# Altium footprint library transformer.PcbLib: 18 footprints (part 1 of 2)
Each footprint in its own frame and in the unit in brackets; x right, y up, seen from the top. Pads: shape width x height; smd on the part's side, far side on the other; paste and mask are expansions set on the pad; w line width, h text height; cw(c..) or ccw(c..) is an arc to the next point about the centre after c.
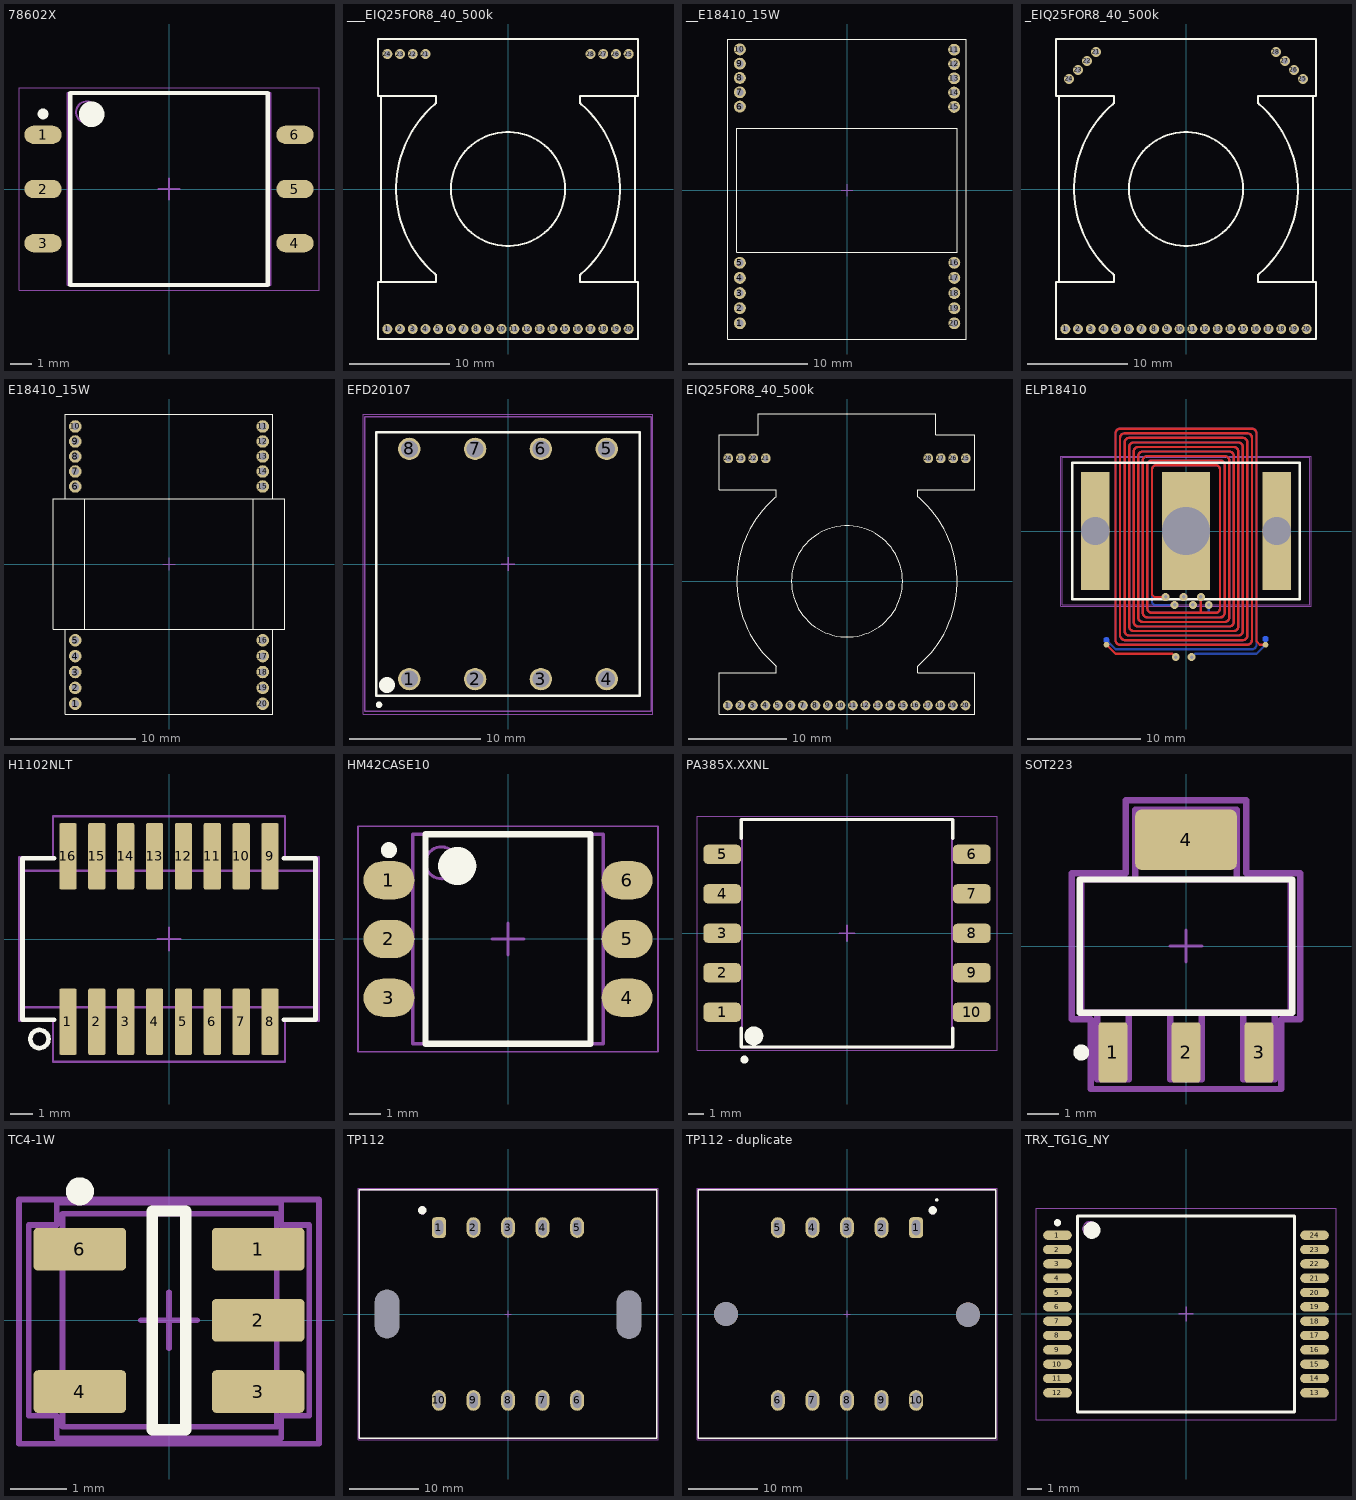
[diagram p0: the footprints below, top view; thin cyan lines are the x and y axes]

## 78602X [mm] "SOP, 6-Leads, IPC Medium Density"
height 6.35
pads (6):
  oval 1.75x0.85 smd: 1(-5.9,2.54) 2(-5.9,0) 3(-5.9,-2.54) 4(5.9,-2.54) 5(5.9,0) 6(5.9,2.54)
Top Overlay:
  circle w0.6: c-3.625,3.5 r0.3
  circle w0.25: c-5.9,3.515 r0.125
  lines w0.2: -4.625,-4.5 4.625,-4.5 4.625,4.5 -4.625,4.5 -4.625,-4.5
Mechanical 13:
  circle w0.1: c-3.85,3.6 r0.5
  lines w0.1: -4.75,-4.5 4.75,-4.5 4.75,4.5 -4.75,4.5 -4.75,-4.5
Mechanical 15:
  lines w0.05: -7.025,-4.75 7.025,-4.75 7.025,4.75 -7.025,4.75 -7.025,-4.75
  lines w0.1: -0.5,0 0.5,0 ; 0,-0.5 0,0.5
3D body "7860X.step": height 6.35, standoff 0, extent -6.35,-4.5 6.35,4.5

## ___EIQ25FOR8_40_500k [mm]
pads (28):
  round 1 hole 0.6 mask+0.127: 1(-12.065,-14) 2(-10.795,-14) 3(-9.525,-14) 4(-8.255,-14) 5(-6.985,-14) 6(-5.715,-14) 7(-4.445,-14) 8(-3.175,-14) 9(-1.905,-14) 10(-0.635,-14) 11(0.635,-14) 12(1.905,-14) 13(3.175,-14) 14(4.445,-14) 15(5.715,-14) 16(6.985,-14) 17(8.255,-14) 18(9.525,-14) 19(10.795,-14) 20(12.065,-14) 21(-8.255,13.5) 22(-9.525,13.5) 23(-10.795,13.5) 24(-12.065,13.5) 25(12.065,13.5) 26(10.795,13.5) 27(9.525,13.5) 28(8.255,13.5)
Top Overlay:
  circle w0.2: c0,0 r5.7
  lines w0.2: -12.7,-9.3 -12.7,9.3 ; -7.325,-8.475 -7.2,-8.6 -7.2,-9.3 -13,-9.3 -13,-15 13,-15 13,-9.3 7.2,-9.3 7.2,-8.6 7.325,-8.475 ; -7.325,8.475 -7.2,8.6 -7.2,9.3 -13,9.3 -13,15 13,15 13,9.3 7.2,9.3 7.2,8.6 7.325,8.475 ; -7.324,-8.474 cw(c0,0) -7.324,8.474 ; 7.324,-8.474 ccw(c0,0) 7.324,8.474 ; 12.7,-9.3 12.7,9.3

## __E18410_15W [mm] "IPC Low Density"
height 6.35
pads (20):
  round 1 hole 0.6 mask+0.127: 1(-9,-11.18) 2(-9,-9.91) 3(-9,-8.64) 4(-9,-7.37) 5(-9,-6.1) 6(-9,7.025) 7(-9,8.225) 8(-9,9.425) 9(-9,10.625) 10(-9,11.825) 11(9,11.8) 12(9,10.6) 13(9,9.4) 14(9,8.2) 15(9,7) 16(9.014,-6.1) 17(9.014,-7.37) 18(9.014,-8.64) 19(9.014,-9.91) 20(9.014,-11.18)
Top Overlay:
  lines w0.1: -9.25,-5.2 -9.25,5.2 ; -9.25,-5.2 -9.25,-5.2 ; -9.25,-5.2 9.25,-5.2 9.25,5.2 -9.25,5.2 ; -9.25,5.2 -9.25,5.2 ; -10,-12.5 -10,12.7 10,12.7 10,-12.5 -10,-12.5
Mechanical 15:
  lines w0.1: -0.5,0 0.5,0 ; 0,-0.5 0,0.5

## _EIQ25FOR8_40_500k [mm]
pads (28):
  round 1 hole 0.6 mask+0.127: 1(-12.065,-14) 2(-10.795,-14) 3(-9.525,-14) 4(-8.255,-14) 5(-6.985,-14) 6(-5.715,-14) 7(-4.445,-14) 8(-3.175,-14) 9(-1.905,-14) 10(-0.635,-14) 11(0.635,-14) 12(1.905,-14) 13(3.175,-14) 14(4.445,-14) 15(5.715,-14) 16(6.985,-14) 17(8.255,-14) 18(9.525,-14) 19(10.795,-14) 20(12.065,-14) 21(-9,13.7) 22(-9.898,12.802) 23(-10.796,11.904) 24(-11.694,11.006) 25(11.694,11.006) 26(10.796,11.904) 27(9.898,12.802) 28(9,13.7)
Top Overlay:
  circle w0.2: c0,0 r5.7
  lines w0.2: -12.7,-9.3 -12.7,9.3 ; -7.325,-8.475 -7.2,-8.6 -7.2,-9.3 -13,-9.3 -13,-15 13,-15 13,-9.3 7.2,-9.3 7.2,-8.6 7.325,-8.475 ; -7.325,8.475 -7.2,8.6 -7.2,9.3 -13,9.3 -13,15 13,15 13,9.3 7.2,9.3 7.2,8.6 7.325,8.475 ; -7.324,-8.474 cw(c0,0) -7.324,8.474 ; 7.324,-8.474 ccw(c0,0) 7.324,8.474 ; 12.7,-9.3 12.7,9.3

## E18410_15W [mm] "IPC Low Density"
height 6.35
pads (20):
  round 1 hole 0.6 mask+0.127: 1(-7.5,-11.18) 2(-7.5,-9.91) 3(-7.5,-8.64) 4(-7.5,-7.37) 5(-7.5,-6.1) 6(-7.5,6.2) 7(-7.5,7.4) 8(-7.5,8.6) 9(-7.5,9.8) 10(-7.5,11) 11(7.5,11) 12(7.5,9.8) 13(7.5,8.6) 14(7.5,7.4) 15(7.5,6.2) 16(7.5,-6.1) 17(7.5,-7.37) 18(7.5,-8.64) 19(7.5,-9.91) 20(7.5,-11.18)
Top Overlay:
  lines w0.1: -9.25,-5.2 -9.25,5.2 ; -9.25,-5.2 -9.25,-5.2 ; -9.25,-5.2 9.25,-5.2 9.25,5.2 -9.25,5.2 ; -9.25,5.2 -9.25,5.2 ; -8.3,-12 -8.3,-5.2 -6.75,-5.2 -6.75,5.2 -8.3,5.2 -8.3,12 8.3,12 8.3,5.2 6.75,5.2 6.75,-5.2 8.3,-5.2 8.3,-12 -8.3,-12
Mechanical 15:
  lines w0.1: -0.5,0 0.5,0 ; 0,-0.5 0,0.5

## EFD20107 [mm] "IPC Low Density"
height 6.35
pads (8):
  round 1.7 hole 1.3: 1(-7.5,-8.75) 2(-2.5,-8.75) 3(2.5,-8.75) 4(7.5,-8.75) 5(7.5,8.75) 6(2.5,8.75) 7(-2.5,8.75) 8(-7.5,8.75)
Top Overlay:
  circle w0.25: c-9.8,-10.7 r0.125
  circle w0.6: c-9.2,-9.2 r0.3
  lines w0.2: -10,-10 10,-10 10,10 -10,10 -10,-10
Mechanical 13:
  circle w0.1: c-9.2,-9.2 r0.5
  lines w0.1: -10.9,-11.2 10.9,-11.2 10.9,11.2 -10.9,11.2 -10.9,-11.2
Mechanical 15:
  lines w0.05: -11,-11.4 11,-11.4 11,11.4 -11,11.4 -11,-11.4
  lines w0.1: -0.5,0 0.5,0 ; 0,-0.5 0,0.5
3D body "EFD20-1.step": height 10.4, standoff -3.5, extent -10.9,-11.331 10.9,11.332

## EIQ25FOR8_40_500k [mm]
pads (28):
  round 1 hole 0.6 mask+0.127: 1(-12.1,-12.6) 2(-10.83,-12.6) 3(-9.56,-12.6) 4(-8.29,-12.6) 5(-7.02,-12.6) 6(-5.75,-12.6) 7(-4.48,-12.6) 8(-3.21,-12.6) 9(-1.94,-12.6) 10(-0.67,-12.6) 11(0.6,-12.6) 12(1.87,-12.6) 13(3.14,-12.6) 14(4.41,-12.6) 15(5.68,-12.6) 16(6.95,-12.6) 17(8.22,-12.6) 18(9.49,-12.6) 19(10.76,-12.6) 20(12.03,-12.6) 21(-8.25,12.5) 22(-9.52,12.5) 23(-10.79,12.5) 24(-12.06,12.5) 25(12.065,12.5) 26(10.795,12.5) 27(9.525,12.5) 28(8.255,12.5)
Top Overlay:
  circle w0.05: c0,0 r5.65
  lines w0.1: -7.325,-8.475 -7.2,-8.6 -7.2,-9.3 -13,-9.3 -13,-13.475 13,-13.475 13,-9.3 7.2,-9.3 7.2,-8.6 7.325,-8.475 ; -7.325,8.475 -7.2,8.6 -7.2,9.3 -13,9.3 -13,14.9 -9,14.9 -9,17 -7.7,17 9.005,17 9.005,14.9 13,14.9 13,9.3 7.2,9.3 7.2,8.6 7.325,8.475 ; -7.324,-8.474 cw(c0,0) -7.324,8.474 ; 7.324,-8.474 ccw(c0,0) 7.324,8.474

## ELP18410 [mm] "IPC Low Density"
height 6.35
pads (11):
  round 0.5 smd far side: 1(-7,-9.6) 4(7,-9.5)
  round 0.5 smd: 2(-7,-10) 3(7,-10)
  round 0.5 on Mid1: 5(10,8.5) 6(8,7)
  round 0.5 on Mid2: 7(-8,7) 8(-10.5,8.5)
  rect 2.5x10.4 hole 2.5 square unplated: ""(-8,0) ""(8,0)
  rect 4.25x10.4 hole 4.25 square unplated: ""(0,0)
via 0.6,-6.5 diameter 0.7 hole 0.3
via -1,-6.5 diameter 0.7 hole 0.3
via -1.8,-5.8 diameter 0.7 hole 0.3
via 2,-6.5 diameter 0.7 hole 0.3
via 1.3,-5.8 diameter 0.7 hole 0.3
via -0.2,-5.8 diameter 0.7 hole 0.3
via 0.5,-11.1 diameter 0.7 hole 0.3
via -0.9,-11.1 diameter 0.7 hole 0.3
Top Layer:
  rectangle: 1,-6 1.6,-5.6
  rectangle: 1.7,-6.7 2.3,-6.3
  rectangle: 0.3,-6.7 0.9,-6.3
  rectangle: -1.3,-6.7 -0.7,-6.3
  region: -1.5,-5.6 -2.1,-5.6 -2.1,-6 -1.5,-6
  region: 0.1,-5.6 -0.5,-5.6 -0.5,-6 0.1,-6
  lines w0.2: -7,-10 -6.2,-10.8 -1.2,-10.8 -0.9,-11.1 ; -5.4,-9.6 5,-9.6 ccw(c5,-9.2) 5.4,-9.2 5.4,7.8 ccw(c5,7.8) 5,8.2 -5,8.2 ccw(c-5,7.8) -5.4,7.8 -5.4,-8.8 ccw(c-5,-8.8) -5,-9.2 4.6,-9.2 ccw(c4.6,-8.8) 5,-8.8 5,7.4 ccw(c4.6,7.4) 4.6,7.8 -4.6,7.8 ccw(c-4.6,7.4) -5,7.4 -5,-8.4 ccw(c-4.6,-8.4) -4.6,-8.8 4.2,-8.8 ccw(c4.2,-8.4) 4.6,-8.4 4.6,7 ccw(c4.2,7) 4.2,7.4 -4.2,7.4 ccw(c-4.2,7) -4.6,7 -4.6,-8 ccw(c-4.2,-8) -4.2,-8.4 3.8,-8.4 ccw(c3.8,-8) 4.2,-8 4.2,6.6 ccw(c3.8,6.6) 3.8,7 -3.8,7 ccw(c-3.8,6.6) -4.2,6.6 -4.2,-7.6 ccw(c-3.8,-7.6) -3.8,-8 3.4,-8 ccw(c3.4,-7.6) 3.8,-7.6 3.8,6.2 ccw(c3.4,6.2) 3.4,6.6 ; -5.3,-9.6 cw(c-5.35,-9.15) -5.8,-9.2 -5.8,8.2 cw(c-5.4,8.2) -5.4,8.6 5.4,8.6 cw(c5.4,8.2) 5.8,8.2 5.8,-9.6 cw(c5.4,-9.6) 5.4,-10 -5.8,-10 cw(c-5.8,-9.6) -6.2,-9.6 -6.2,8.6 cw(c-5.8,8.6) -5.8,9 5.8,9 cw(c5.8,8.6) 6.2,8.6 6.2,-9.7 6.5,-10 7,-10 ; -1.8,-5.8 -2.8,-5.8 -3,-5.6 -3,5.4 cw(c-2.6,5.4) -2.6,5.8 2.7,5.8 ; 1.3,-7.2 1.3,-5.8 ; 2.6,5.8 cw(c2.6,5.4) 3,5.4 3,-6.8 cw(c2.6,-6.8) 2.6,-7.2 -3,-7.2 cw(c-3,-6.8) -3.4,-6.8 -3.4,5.8 cw(c-3,5.8) -3,6.2 3.1,6.2 ; 3,6.2 cw(c3,5.8) 3.4,5.8 3.4,-7.2 cw(c3,-7.2) 3,-7.6 -3.4,-7.6 cw(c-3.4,-7.2) -3.8,-7.2 -3.8,6.2 cw(c-3.4,6.2) -3.4,6.6 3.5,6.6
Mid-Layer 1:
  region: 2,9.4 -6.3,9.4 -6.3,-9.5 -6.3,-15.2 -2.6,-15.2 -2.6,-9.5 -2.6,-5.7 -2.6,5.7 2,5.7
  region: 2.6,9.4 11,9.4 11,5.7 6.3,5.7 6.3,-15.2 -6.3,-15.2 -6.3,-11.7 2.6,-11.7
  lines w0.2: -0.9,-11.1 -0.4,-10.6 ; -0.8,-11 -0.2,-10.4 -0.2,-5.8 ; 0.5,-11.1 0.6,-11 0.6,-10.5 0.6,-6.5
Mid-Layer 2:
  region: -2.6,9.4 -2.6,-14.5 -6.3,-14.5 -6.3,5.7 -11.5,5.7 -11.5,9.4
  region: 2.6,-11.7 -6.3,-11.7 -6.3,-15.2 6.3,-15.2 6.3,9.4 -2.1,9.4 -2.1,5.7 2.6,5.7
Bottom Layer:
  lines w0.2: -7,-9.6 -6.9,-9.7 -6.2,-10.4 5.8,-10.4 ccw(c5.8,-10) 6.2,-10 6.2,8.6 ccw(c5.8,8.6) 5.8,9 -5.8,9 ccw(c-5.8,8.6) -6.2,8.6 -6.2,-9.6 ccw(c-5.8,-9.6) -5.8,-10 5.4,-10 ccw(c5.4,-9.6) 5.8,-9.6 5.8,8.2 ccw(c5.4,8.2) 5.4,8.6 -5.4,8.6 ccw(c-5.4,8.2) -5.8,8.2 -5.8,-9.2 ccw(c-5.35,-9.15) -5.3,-9.6 ; -5.4,-9.6 5,-9.6 ccw(c5,-9.2) 5.4,-9.2 5.4,7.8 ccw(c5,7.8) 5,8.2 -5,8.2 ccw(c-5,7.8) -5.4,7.8 -5.4,-8.8 ccw(c-5,-8.8) -5,-9.2 4.6,-9.2 ccw(c4.6,-8.8) 5,-8.8 5,7.4 ccw(c4.6,7.4) 4.6,7.8 -4.6,7.8 ccw(c-4.6,7.4) -5,7.4 -5,-8.4 ccw(c-4.6,-8.4) -4.6,-8.8 4.2,-8.8 ccw(c4.2,-8.4) 4.6,-8.4 4.6,7 ccw(c4.2,7) 4.2,7.4 -4.2,7.4 ccw(c-4.2,7) -4.6,7 -4.6,-8 ccw(c-4.2,-8) -4.2,-8.4 3.8,-8.4 ccw(c3.8,-8) 4.2,-8 4.2,6.6 ccw(c3.8,6.6) 3.8,7 -3.8,7 ccw(c-3.8,6.6) -4.2,6.6 -4.2,-7.6 ccw(c-3.8,-7.6) -3.8,-8 3.4,-8 ccw(c3.4,-7.6) 3.8,-7.6 3.8,6.2 ccw(c3.4,6.2) 3.4,6.6 ; -1,-6.5 -2.8,-6.5 -3,-6.3 -3,5.4 cw(c-2.6,5.4) -2.6,5.8 2.7,5.8 ; 0.5,-11.1 0.8,-10.8 6.2,-10.8 6.6,-10.4 7,-10 7,-9.5 ; 2,-7.2 2,-6.5 ; 2.6,5.8 cw(c2.6,5.4) 3,5.4 3,-6.8 cw(c2.6,-6.8) 2.6,-7.2 -3,-7.2 cw(c-3,-6.8) -3.4,-6.8 -3.4,5.8 cw(c-3,5.8) -3,6.2 3.1,6.2 ; 3,6.2 cw(c3,5.8) 3.4,5.8 3.4,-7.2 cw(c3,-7.2) 3,-7.6 -3.4,-7.6 cw(c-3.4,-7.2) -3.8,-7.2 -3.8,6.2 cw(c-3.4,6.2) -3.4,6.6 3.5,6.6
Top Overlay:
  lines w0.2: -10,-6 -10,6 10,6 10,-6 -10,-6
Mechanical 13:
  lines w0.1: -10.9,-6.5 -10.9,6.5 10.9,6.5 10.9,-6.5 -10.9,-6.5
Mechanical 15:
  lines w0.05: -11,-6.6 -11,6.6 11,6.6 11,-6.6 -11,-6.6
  lines w0.1: -0.5,0 0.5,0 ; 0,-0.5 0,0.5
3D body: height 2, standoff 0, extent -9.1,-5 9.1,5
3D body: height 0, standoff -2, extent -9.1,-5 -6.9,5
3D body: height 0, standoff -2, extent 6.9,-5 9.1,5
3D body: height 0, standoff -2, extent -2,-5 2,5
3D body: height -2, standoff -4, extent -9.1,-5 9.1,5

## H1102NLT [mm]
pads (16):
  rrect20% 0.76x2.92 smd: 1(-4.445,-3.64) 2(-3.175,-3.64) 3(-1.905,-3.64) 4(-0.635,-3.64) 5(0.635,-3.64) 6(1.905,-3.64) 7(3.175,-3.64) 8(4.445,-3.64) 9(4.445,3.64) 10(3.175,3.64) 11(1.905,3.64) 12(0.635,3.64) 13(-0.635,3.64) 14(-1.905,3.64) 15(-3.175,3.64) 16(-4.445,3.64)
Top Overlay:
  circle w0.2: c-5.7,-4.4 r0.4
  lines w0.2: -5.05,-3.555 -6.445,-3.555 -6.445,3.555 -5.05,3.555 ; 5.05,-3.555 6.445,-3.555 6.445,3.555 5.05,3.555
M3_comm_top:
  text ".comment" at -3,-0.5 h1
M5_asm_top:
  circle w0.1: c-5.7,-4.4 r0.4
  lines w0.1: -6.4,-3 -6.4,3 6.4,3 6.4,-3 -6.4,-3
  text ".Designator" at -3.7,0.9 h1
M7_courtyard_top:
  lines w0.1: -0.5,0 0.5,0 ; 0,-0.5 0,0.5 ; -6.6,-3.6 -5.1,-3.6 -5.1,-5.4 5.1,-5.4 5.1,-3.6 6.6,-3.6 6.6,3.6 5.1,3.6 5.1,5.4 -5.1,5.4 -5.1,3.6 -6.6,3.6 -6.6,-3.6
3D body "7490100111A (rev1).stp": height 6.35, standoff 0, extent -6.35,-4.7 6.35,4.7

## HM42CASE10 [mm] "CASE10, IPC Medium Density"
height 5.5
pads (6):
  oval 1.6x1.2 smd: 1(-3.75,1.85) 2(-3.75,0) 3(-3.75,-1.85) 4(3.75,-1.85) 5(3.75,0) 6(3.75,1.85)
Top Overlay:
  circle w0.25: c-3.75,2.8 r0.125
  circle w0.6: c-1.6,2.3 r0.3
  lines w0.2: -2.6,-3.3 -2.6,3.3 2.6,3.3 2.6,-3.3 -2.6,-3.3
Mechanical 13:
  circle w0.1: c-2.1,2.4 r0.5
  lines w0.1: -3,-3.3 -3,3.3 3,3.3 3,-3.3 -3,-3.3
Mechanical 15:
  lines w0.05: -4.725,-3.55 -4.725,3.55 4.725,3.55 4.725,-3.55 -4.725,-3.55
  lines w0.1: -0.5,0 0.5,0 ; 0,-0.5 0,0.5
3D body "HM40CASE10_.step": height 5.5, standoff 0, extent -4.05,-3.3 4.05,3.3

## PA385X.XXNL [mm] "SOP, 24-Leads, Body 13,72x15,24mm, Pitch 1,00mm, IPC Low Density"
height 6.35
pads (10):
  rrect50% 2.4x1.22 smd: 1(-7.9,-5) 2(-7.9,-2.5) 3(-7.9,0) 4(-7.9,2.5) 5(-7.9,5) 6(7.9,5) 7(7.9,2.5) 8(7.9,0) 9(7.9,-2.5) 10(7.9,-5)
Top Overlay:
  circle w0.25: c-6.5,-8 r0.125
  circle w0.6: c-5.9,-6.5 r0.3
  lines w0.2: -6.7,-6 -6.7,-7.2 6.7,-7.2 6.7,-6 ; -6.7,6 -6.7,7.2 6.7,7.2 6.7,6
Mechanical 13:
  circle w0.1: c-5.9,-6.5 r0.5
  lines w0.1: -6.65,-7.25 6.65,-7.25 6.65,7.25 -6.65,7.25 -6.65,-7.25
Mechanical 15:
  lines w0.05: -9.5,-7.4 9.5,-7.4 9.5,7.4 -9.5,7.4 -9.5,-7.4
  lines w0.1: -0.5,0 0.5,0 ; 0,-0.5 0,0.5
3D body: height 1.9, standoff 1.5, extent -8.112,-5.35 -6.487,-4.65
3D body: height 1.9, standoff 0, extent -8.5,-5.35 -8.1,-4.65
3D body: height 14, standoff 0.2, extent -6.65,-7.25 6.65,7.25
3D body: height 0.4, standoff 0, extent -8.9,-5.35 -8.1,-4.65
3D body: height 0.4, standoff 0, extent -8.9,-2.85 -8.1,-2.15
3D body: height 1.9, standoff 0, extent -8.5,-2.85 -8.1,-2.15
3D body: height 1.9, standoff 1.5, extent -8.112,-2.85 -6.487,-2.15
3D body: height 0.4, standoff 0, extent -8.9,-0.35 -8.1,0.35
3D body: height 1.9, standoff 0, extent -8.5,-0.35 -8.1,0.35
3D body: height 1.9, standoff 1.5, extent -8.112,-0.35 -6.487,0.35
3D body: height 0.4, standoff 0, extent -8.9,2.15 -8.1,2.85
3D body: height 1.9, standoff 0, extent -8.5,2.15 -8.1,2.85
3D body: height 1.9, standoff 1.5, extent -8.112,2.15 -6.487,2.85
3D body: height 0.4, standoff 0, extent -8.9,4.65 -8.1,5.35
3D body: height 1.9, standoff 0, extent -8.5,4.65 -8.1,5.35
3D body: height 1.9, standoff 1.5, extent -8.112,4.65 -6.487,5.35
3D body: height 1.9, standoff 1.5, extent 6.388,4.65 8.013,5.35
3D body: height 1.9, standoff 0, extent 8,4.65 8.4,5.35
3D body: height 0.4, standoff 0, extent 8,4.65 8.8,5.35
3D body: height 1.9, standoff 1.5, extent 6.388,2.15 8.013,2.85
3D body: height 1.9, standoff 0, extent 8,2.15 8.4,2.85
3D body: height 0.4, standoff 0, extent 8,2.15 8.8,2.85
3D body: height 1.9, standoff 1.5, extent 6.388,-0.35 8.013,0.35
3D body: height 1.9, standoff 0, extent 8,-0.35 8.4,0.35
3D body: height 0.4, standoff 0, extent 8,-0.35 8.8,0.35
3D body: height 1.9, standoff 1.5, extent 6.388,-2.85 8.013,-2.15
3D body: height 1.9, standoff 0, extent 8,-2.85 8.4,-2.15
3D body: height 0.4, standoff 0, extent 8,-2.85 8.8,-2.15
3D body: height 0.4, standoff 0, extent 8,-5.35 8.8,-4.65
3D body: height 1.9, standoff 0, extent 8,-5.35 8.4,-4.65
3D body: height 1.9, standoff 1.5, extent 6.388,-5.35 8.013,-4.65

## SOT223 [mm] "SOT223, 4-Leads, Body 6.5x3.5mm, Pitch 2.3mm, IPC Low Density"
height 1.8
pads (4):
  rrect20% 0.9x1.9 smd: 1(-2.3,-3.35) 2(0,-3.35) 3(2.3,-3.35)
  rrect20% 3.2x1.9 smd: 4(0,3.35)
Top Overlay:
  circle w0.25: c-3.3,-3.35 r0.125
  lines w0.2: -3.35,-2.1 3.35,-2.1 3.35,2.1 -3.35,2.1 -3.35,-2.1
M3_comm_top:
  text ".comment" at -1.8,-0.3 h1
M5_asm_top:
  lines w0.2: -2.8,-2.1 -2.8,-4.2 -1.8,-4.2 -1.8,-2.1 ; -1.6,2.1 -1.6,4.1 -1.6,4.3 1.6,4.3 1.6,2.1 ; -0.5,-2.1 -0.5,-4.2 0.5,-4.2 0.5,-2.1 ; 1.8,-2.1 1.8,-4.2 2.8,-4.2 2.8,-2.1 ; -3.3,-2.1 3.3,-2.1 3.3,2.1 -3.3,2.1 -3.3,-2.1
  text ".Designator" at -1.6,4.7 h1
M7_courtyard_top:
  lines w0.1: -0.5,0 0.5,0 ; 0,-0.5 0,0.5
  lines w0.2: -3.6,-2.3 -3,-2.3 -3,-4.5 3,-4.5 3,-2.3 3.6,-2.3 3.6,2.3 1.9,2.3 1.9,4.6 -1.9,4.6 -1.9,2.3 -3.6,2.3 -3.6,-2.3
3D body "SOT-223-2.STEP": height 1.95, standoff 0.05, extent -3.302,-3.574 3.398,3.63

## TC4-1W [mm]
height 1.1
pads (5):
  rrect20% 1.65x0.76 smd: 1(1.59,1.27) 2(1.59,0) 3(1.59,-1.27) 4(-1.59,-1.27) 6(-1.59,1.27)
Top Overlay:
  circle w0.25: c-1.59,2.3 r0.125
  lines w0.2: -0.3,-1.95 0.3,-1.95 0.3,1.95 -0.3,1.95 -0.3,-1.95
M3_comm_top:
  text ".comment" at -1.7,-0.2 h1
M5_asm_top:
  lines w0.1: 0.3,2 0.3,-2 -0.3,-2 -0.3,2 0.3,2 ; 0.3,2 0.3,2
  text ".Designator" at -1.4,2.3 h1
M7_courtyard_top:
  lines w0.1: -0.5,0 0.5,0 ; 0,-0.5 0,0.5 ; -2.5,-1.7 -2,-1.7 -2,-2.1 2,-2.1 2,-1.7 2.5,-1.7 2.5,-0.8 2.5,1.7 2,1.7 2,2.1 -2,2.1 -2,1.7 -2.5,1.7 -2.5,-1.7
Mechanical 13:
  lines w0.1: -1.9,-1.9 -1.9,1.9 1.925,1.9 1.925,-1.9 -1.9,-1.9
Mechanical 15:
  lines w0.1: -2.675,1.775 -2.675,2.155 -1.8,2.155 1.8,2.155 2.675,2.155 2.675,1.8 2.675,-1.8 2.675,-2.2 1.8,-2.2 -1.8,-2.2 -2.675,-2.2 -2.675,-1.8 -2.675,1.8 ; -0.5,0 0.5,0 ; 0,-0.5 0,0.5
3D body "User Library-RF Transformer SMD.step": height 2.79, standoff -0.02, extent -1.923,-1.905 1.923,1.905

## TP112 [mm] "IPC Low Density"
height 6.35
pads (12):
  rrect50% 2x3 hole 1.2 slot 2.2 at 90 deg: 1(-10,12.5)
  oval 2x3 hole 1.2 slot 2.2 at 90 deg: 2(-5,12.5) 3(0,12.5) 4(5,12.5) 5(10,12.5) 6(10,-12.5) 7(5,-12.5) 8(0,-12.5) 9(-5,-12.5) 10(-10,-12.5)
  round 3.5 hole 3.5 slot 7 at 90 deg unplated: ""(-17.5,0) ""(17.5,-0.1)
Top Overlay:
  circle w0.6: c-12.4,15 r0.3
  lines w0.2: -21.5,-18 21.5,-18 21.5,18 -21.5,18 -21.5,-18
Mechanical 13:
  circle w0.1: c-12.4,15 r0.5
  lines w0.1: -21.5,-18 21.5,-18 21.5,18 -21.5,18 -21.5,-18
Mechanical 15:
  lines w0.05: -21.7,-18.2 21.7,-18.2 21.7,18.2 -21.7,18.2 -21.7,-18.2
  lines w0.1: -0.5,0 0.5,0 ; 0,-0.5 0,0.5
3D body "trans.step": height 40, standoff -4, extent -21.5,-18 21.5,18

## TP112 - duplicate [mm] "IPC Low Density"
height 6.35
pads (12):
  rrect50% 2x3 hole 1.2 slot 2.2 at 90 deg: 1(10,12.5)
  oval 2x3 hole 1.2 slot 2.2 at 90 deg: 2(5,12.5) 3(0,12.5) 4(-5,12.5) 5(-10,12.5) 6(-10,-12.5) 7(-5,-12.5) 8(0,-12.5) 9(5,-12.5) 10(10,-12.5)
  round 3.5 hole 3.5 unplated: ""(-17.5,0) ""(17.5,-0.1)
Top Overlay:
  circle w0.6: c12.4,15 r0.3
  circle w0.25: c13,16.5 r0.125
  lines w0.2: -21.5,-18 -21.5,18 21.5,18 21.5,-18 -21.5,-18
Mechanical 13:
  circle w0.1: c12.4,15 r0.5
  lines w0.1: -21.5,-18 -21.5,18 21.5,18 21.5,-18 -21.5,-18
Mechanical 15:
  lines w0.05: -21.7,-18.2 -21.7,18.2 21.7,18.2 21.7,-18.2 -21.7,-18.2
  lines w0.1: -0.5,0 0.5,0 ; 0,-0.5 0,0.5
3D body "trans.step": height 40, standoff -4, extent -21.5,-18 21.5,18

## TRX_TG1G_NY [mm] "SOP, 24-Leads, Body 13,72x15,24mm, Pitch 1,00mm, IPC Low Density"
height 6.35
pads (24):
  oval 2x0.65 smd: 1(-8.975,5.5) 2(-8.975,4.5) 3(-8.975,3.5) 4(-8.975,2.5) 5(-8.975,1.5) 6(-8.975,0.5) 7(-8.975,-0.5) 8(-8.975,-1.5) 9(-8.975,-2.5) 10(-8.975,-3.5) 11(-8.975,-4.5) 12(-8.975,-5.5) 13(8.975,-5.5) 14(8.975,-4.5) 15(8.975,-3.5) 16(8.975,-2.5) 17(8.975,-1.5) 18(8.975,-0.5) 19(8.975,0.5) 20(8.975,1.5) 21(8.975,2.5) 22(8.975,3.5) 23(8.975,4.5) 24(8.975,5.5)
Top Overlay:
  circle w0.25: c-8.975,6.375 r0.125
  circle w0.6: c-6.575,5.85 r0.3
  lines w0.2: -7.575,-6.85 -7.575,6.85 7.575,6.85 7.575,-6.85 -7.575,-6.85
Mechanical 13:
  circle w0.1: c-6.7,5.95 r0.5
  lines w0.1: -7.6,-6.85 -7.6,6.85 7.6,6.85 7.6,-6.85 -7.6,-6.85
Mechanical 15:
  lines w0.05: -10.475,-7.4 -10.475,7.4 10.475,7.4 10.475,-7.4 -10.475,-7.4
  lines w0.1: -0.5,0 0.5,0 ; 0,-0.5 0,0.5
3D body: height 6.35, standoff 0.25, extent -7.6,-6.85 7.6,6.85